# Altium integrated library DC_CDI_Honda_CX500_rev2.2.IntLib: 64 symbols
Pins are listed as number, name and electrical type; pins without a type are passive.

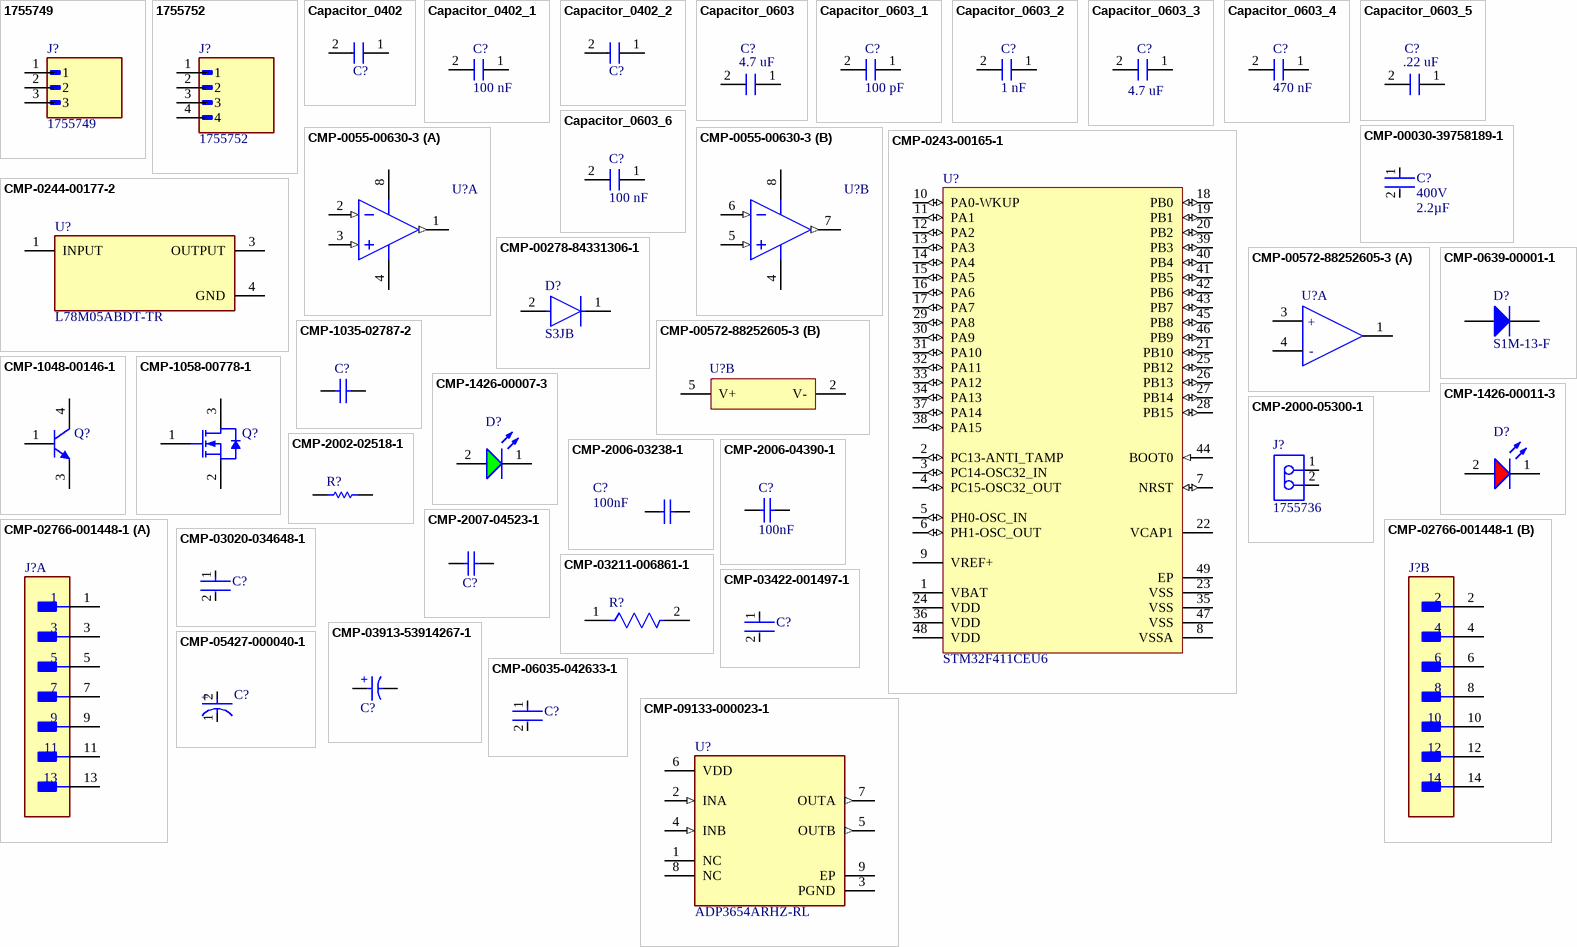
[diagram p0: symbols 1755749 to CMP-09133-000023-1]

## 1755749
designator J?
Package: None; Price: None; Value: *; MP: 1755749; Availability: Unavailable
footprint PHOENIX_1755749
pins: 1, 2, 3

## 1755752
designator J?
Package: None; Price: None; Value: *; MP: 1755752; Availability: Unavailable
footprint PHOENIX_1755752
pins: 1, 2, 3, 4

## Capacitor_0402
designator C?  (value not drawn)
Value: 3.3 nF; Format: 0402; Package: 0402
footprint 0402_fp
pins: 1, 2

## Capacitor_0402_1
designator C?, comment value 100 nF  (hidden comment: Capacitor_0402)
Format: 0402; Package: 0402
footprint 0402_fp
pins: 1, 2

## Capacitor_0402_2
designator C?, comment Capacitor_0402  (value not drawn)
Value: 10 nF; Format: 0402; Package: 0402
footprint 0402_fp
pins: 1, 2

## Capacitor_0603
designator C?, comment value 4.7 uF  (hidden comment: GRM21BR61C475KA88L)
Format: 0402; Package: 0402
footprint 0603_FP
pins: 1, 2

## Capacitor_0603_1
designator C?, comment value 100 pF  (hidden comment: Capacitor_0603)
Format: 0402; Package: 0402
footprint 0603_FP
pins: 1, 2

## Capacitor_0603_2
designator C?, comment value 1 nF  (hidden comment: Capacitor_0603)
Format: 0402; Package: 0402
footprint 0603_FP
pins: 1, 2

## Capacitor_0603_3
designator C?, comment value 4.7 uF  (hidden comment: Capacitor_0603)
Format: 0402; Package: 0402
footprint 0603_FP
pins: 1, 2

## Capacitor_0603_4
designator C?, comment value 470 nF  (hidden comment: Capacitor_0603)
Format: 0402; Package: 0402
footprint 0603_FP
pins: 1, 2

## Capacitor_0603_5
designator C?, comment value .22 uF  (hidden comment: GRM21BR61C475KA88L)
Format: 0402; Package: 0402
footprint 0603_FP
pins: 1, 2

## Capacitor_0603_6
designator C?, comment value 100 nF  (hidden comment: Capacitor_0603)
Format: 0402; Package: 0402
footprint 0603_FP
pins: 1, 2

## CMP-00030-39758189-1
designator C?, comment Voltage Rating (AC): 400V  Capacitance: 2.2µF  (hidden comment: BFC233820225)
BFC233820225 Film Capacitor, Polypropylene, 800V, 20% +Tol, 20% -Tol, 0.22uF, Through Hole Mount; NexarPartId: 39758189; Insulation Resistance: 11GΩ; Lead Diameter: 800µm; Voltage Rating (DC): 630V; Dielectric: PP; Packaging: Bulk; Lead Pitch: 27.5mm; Number of Pins: 2; Contact Plating: Tin; Height - Seated (Max): 24.9936mm; Width: 15.0114mm; Min Operating Temperature: -55°C; Lead Free: Lead Free; Length: 31.5mm; Schedule B: 8532250020, 8532250020; Depth: 15mm; Max Operating Temperature: 110°C; Tolerance: 20%; Dielectric Material: PP; RoHS: Compliant; Height: 28mm; Case/Package: Radial; Diameter: 18mm; Termination: Radial; Voltage Rating: 630V; REACH SVHC: Unknown; Radiation Hardening: No; Mount: Through Hole
footprint FP-BFC233820225-MFG (Film Capacitor, Polypropylene, 800V, 20% +Tol, 20% -Tol, 0.22uF, Through Hole Mount)
signal-integrity model Guessed Model (Capacitor Model Details Guessed by Setup Helper)
pins: 1, 2

## CMP-0055-00630-3
designator U?, comment LM358MX  (value not drawn)
Low Power Dual Operational Amplifier, 8-pin Narrow SOIC; Manufacturer: Texas Instruments; PowerWise: N; PackageTopMarking: NSZXTT*LM*358M; CompType: Amplifiers; ComponentLink1URL: http://www.ti.com/general/docs/lit/getliterature.tsp?genericPartNumber=LM358-N&fileType=pdf; PinCount: 8; PackageDescription: SOIC Narrow, 4.9 x 3.9 x 1.45mm, 8 Lead, 1.27mm Pitch; Code_IPC: SOIC127P600-8; RoHS: N; Code_JEDEC: MS-012-AA; Package Reference: D0008A; ComponentLink1Description: Datasheet URL
footprint D0008A_M (SOIC, 8-Leads, Body 5x4mm, Pitch 1.27mm, IPC Low Density)
footprint D0008A_N (SOIC, 8-Leads, Body 5x4mm, Pitch 1.27mm, IPC Medium Density)
footprint D0008A_L (SOIC, 8-Leads, Body 5x4mm, Pitch 1.27mm, IPC High Density)
pins on every part: 4 GND (power), 8 V+ (power)
part A pins: 1 OUTA (out), 2 INA- (in), 3 INA+ (in)
part B pins: 5 INB+ (in), 6 INB- (in), 7 OUTB (out)

## CMP-0243-00165-1
designator U?, comment STM32F411CEU6
ARM Cortex-M4 32-bit MCU+FPU, 512 KB Flash, 128 KB RAM, 36 I/Os, 48-Pin UFQFPN, -40 to 85 degC, Tray; Operating Frequency(F) (Processor speed) (MHz): 100; FLASH Size (Prog) (kB): 512; Internal RAM Size (kB): 128; I/Os (High Current): 36; Supply Voltage(Vcc) min (V): 1.7; Package Reference: 48-Pin Ultra Thin Fine Pitch Quad Flat No-Lead, 7 x 7 x 0.6 mm Body, 0.5 mm Pitch, Exposed Pad; ComponentLink1Description: Manufacturer URL; ComponentLink1URL: http://www.st.com/; Packing: Tray; Package Description: UFQFPN48; Core: ARM Cortex-M4; ComponentLink2Description: Datasheet; ComponentLink2URL: http://www.st.com/st-web-ui/static/active/en/resource/technical/document/datasheet/DM00115249.pdf; DatasheetVersion: Rev. 6; Mounting Technology: Surface Mount
footprint STM-UFQFPN48_L (QFN, 48-Leads, Body 7.1x7.1mm, Pitch 0.5mm, Thermal Pad 5.6x5.6mm, IPC High Density)
footprint STM-UFQFPN48_M (QFN, 48-Leads, Body 7.1x7.1mm, Pitch 0.5mm, Thermal Pad 5.6x5.6mm, IPC Low Density)
footprint STM-UFQFPN48_N (QFN, 48-Leads, Body 7.1x7.1mm, Pitch 0.5mm, Thermal Pad 5.6x5.6mm, IPC Medium Density)
pins: 1 VBAT (power), 2 PC13-ANTI_TAMP (io) "PC13-ANTI_TAMP/RTC_AMP1,RTC_OUT,RTC_TS", 3 PC14-OSC32_IN (io) "PC14-OSC32_IN/OSC32_IN", 4 PC15-OSC32_OUT (io) "PC15-OSC32_OUT/OSC32_OUT", 5 PH0-OSC_IN (io) "PH0-OSC_IN/OSC_IN", 6 PH1-OSC_OUT (io) "PH1-OSC_OUT/OSC_OUT", 7 NRST (io) "NRST/EVENTOUT", 8 VSSA (power), 9 VREF+ (power), 10 PA0-WKUP (io) "PA0-WKUP/TIM2_CH1/TIM2_ET,TIM5_CH1,USART2_CTS,EVENTOUT/ADC1_0,WKUP1", 11 PA1 (io) "PA1/TIM2_CH2,TIM5_CH2,SPI4_MOSI/I2S4_SD,USART2_RTS,EVENTOUT/ADC1_1", 12 PA2 (io) "PA2/TIM2_CH3,TIM5_CH3,TIM9_CH1,I2S2_CKIN,USART2_TX,EVENTOUT/ADC1_2", 13 PA3 (io) "PA3/TIM2_CH4,TIM5_CH4,TIM9_CH2,I2S2_MCK,USART2_RX,EVENTOUT/ADC1_3", 14 PA4 (io) "PA4/SPI1_NSS/I2S1_WS,SPI3_NSS/I2S3_WS,USART2_CK,EVENTOUT/ADC1_4", 15 PA5 (io) "PA5/TIM2_CH1/TIM2_ET,SPI1_SCK/I2S1_CK,EVENTOUT/ADC1_5", 16 PA6 (io) "PA6/TIM1_BKIN,TIM3_CH1,SPI1_MISO,I2S2_MCK,SDIO_CMD,EVENTOUT/ADC1_6", 17 PA7 (io) "PA7/TIM1_CH1N,TIM3_CH2,SPI1_MOSI/I2S1_SD,EVENTOUT/ADC1_7", 18 PB0 (io) "PB0/TIM1_CH2N,TIM3_CH3,SPI5_SCK/I2S5_CK,EVENTOUT/ADC1_8", 19 PB1 (io) "PB1/TIM1_CH3N,TIM3_CH4,SPI5_NSS/I2S5_WS,EVENTOUT/ADC1_9", 20 PB2 (io) "PB2/EVENTOUT/BOOT1", 21 PB10 (io) "PB10/TIM2_CH3,I2C2_SCL,SPI2_SCK/I2S2_CK,I2S3_MCK,SDIO_D7,EVENTOUT", 22 VCAP1, 23 VSS (power), 24 VDD (power), 25 PB12 (io) "PB12/TIM1_BKIN,I2C2_SMBA,SPI2_NSS/I2S2_WS,SPI4_NSS/I2S4_WS,SPI3_SCK/I2S3_CK,EVENTOUT", 26 PB13 (io) "PB13/TIM1_CH1N,SPI2_SCK/I2S2_CK,SPI4_SCK/I2S4_CK,EVENTOUT", 27 PB14 (io) "PB14/TIM1_CH2N,SPI2_MISO,I2S2EXT_SD,SDIO_D6,EVENTOUT", 28 PB15 (io) "PB15/RTC_50HZ,TIM1_CH3N,SPI2_MOSI/I2S2_SD,SDIO_CK,EVENTOUT/RTC_REFIN", 29 PA8 (io) "PA8/MCO_1,TIM1_CH1,I2C3_SCL,USART1_CK,USB_FS_SOF,SDIO_D1,EVENTOUT", 30 PA9 (io) "PA9/TIM1_CH2,I2C3_SMBA,USART1_TX,USB_FS_VBUS,SDIO_D2,EVENTOUT/OTG_FS_VBUS", 31 PA10 (io) "PA10/TIM1_CH3,SPI5_MOSI/I2S5_SD,USART1_RX,USB_FS_ID,EVENTOUT", 32 PA11 (io) "PA11/TIM1_CH4,SPI4_MISO,USART1_CTS,USART6_TX,USB_FS_DM,EVENTOUT", 33 PA12 (io) "PA12/TIM1_ETR,SPI5_MISO,USART1_RTS,USART6_RX,USB_FS_DP,EVENTOUT", 34 PA13 (io) "PA13/JTMS-SWDIO,EVENTOUT", 35 VSS (power), 36 VDD (power), 37 PA14 (io) "PA14/JTCK-SWCLK,EVENTOUT", 38 PA15 (io) "PA15/JTDI,TIM2_CH1/TIM2_ETR,SPI1_NSS/I2S1_WS,SPI3_NSS/I2S3_WS,USART1_TX,EVENTOUT", 39 PB3 (io) "PB3/JTDO-SWO,TIM2_CH2,SPI1_SCK/I2S1_CK,SPI3_SCK/I2S3_CK,USART1_RX,I2C2_SDA,EVENTOUT", 40 PB4 (io) "PB4/JTRST,TIM3_CH1,SPI1_MISO,SPI3_MISO,I2S3EXT_SD,I2C3_SDA,SDIO_D0,EVENTOUT", 41 PB5 (io) "PB5/TIM3_CH2,I2C1_SMBA,SPI1_MOSI/I2S1_SD,SPI3_MOSI/I2S3_SD,SDIO_D3,EVENTOUT", 42 PB6 (io) "PB6/TIM4_CH1,I2C1_SCL,USART1_TX,EVENTOUT", 43 PB7 (io) "PB7/TIM4_CH2,I2C1_SDA,USART1_RX,SDIO_D0,EVENTOUT", 44 BOOT0 (in) "BOOT0/VPP", 45 PB8 (io) "PB8/TIM4_CH3,TIM10_CH1,I2C1_SCL,SPI5_MOSI/I2S5_SD,I2C3_SDA,SDIO_D4,EVENTOUT", 46 PB9 (io) "PB9/TIM4_CH4,TIM11_CH1,I2C1_SDA,SPI2_NSS/I2S2_WS,I2C2_SDA,SDIO_D5,EVENTOUT", 47 VSS (power), 48 VDD (power), 49 EP (power)

## CMP-0244-00177-2
designator U?, comment L78M05ABDT-TR
IC REG LINEAR 5V 500MA DPAK; Polarity: Positive; Accuracy: 2%; Max Input Voltage: 35V; Tolerance: 4%; Power Supply Rejection Ratio (PSRR): 62dB; Dropout Voltage: 2V; Output Type: Fixed; Number of Regulators: 1; Min Input Voltage: 10V; Quiescent Current: 6mA; Mount: Surface Mount; Min Operating Temperature: -40°C; Lead Free: Lead Free; Number of Pins: 3; Height: 2.4mm; Weight: 0.01lb; Width: 6.2mm; Packaging: Tape and Reel; Output Current: 500mA; Output Voltage: 5V; Case/Package: TO-252; REACH SVHC: No SVHC; Max Operating Temperature: 125°C; Nominal Output Voltage: 5V; Number of Outputs: 1; Min Output Voltage: 5V; Radiation Hardening: No; Length: 6.6mm; Max Output Current: 500mA; Contact Plating: Tin; Output Voltage Accuracy: 2%; Package Quantity: 1
footprint FP-L78M05ABDT-TR-MFG
pins: 1 INPUT (power), 3 OUTPUT (power), 4 GND (power)

## CMP-00278-84331306-1
designator D?, comment S3JB
S3JB Rectifier Diode, 1 Phase, 1 Element, 3A, 600V V(RRM), Silicon, DO-214AA; Manufacturer Lifecycle Status: ACTIVE; NexarPartId: 84331306; Element Configuration: Single; Max Junction Temperature (Tj): 150°C; Peak Reverse Current: 10µA; Capacitance: 40pF; Reverse Recovery Time: 1.5µs; Max Forward Surge Current (Ifsm): 80A; Mount: Surface Mount; Max Reverse Voltage (DC): 600V; RoHS: Compliant; Packaging: Cut Tape; Weight: 180mg; Schedule B: 8541100080, 8541100080; Average Rectified Current: 3A; Height: 2.65mm; Min Operating Temperature: -55°C; Reverse Voltage: 600V; Max Repetitive Reverse Voltage (Vrrm): 600V; Lifecycle Status: Production; Case/Package: SMB; Forward Current: 3A; Max Operating Temperature: 150°C
footprint FP-403AF-MFG (Rectifier Diode, 1 Phase, 1 Element, 2A, 100V V(RRM), Silicon, DO-214AA)
pins: 1 C, 2 A

## CMP-00572-88252605-3
designator U?, comment ISL28134FHZ-T7A  (value not drawn)
5V Ultra Low Noise, Zero Drift Rail-to-Rail Precision Op Amp; Manufacturer Lifecycle Status: ACTIVE; Slew Rate: 1.5V/µs; Min Dual Supply Voltage: 1.125V; Bandwidth: 3.5MHz; Operating Supply Current: 675µA; Output Current per Channel: 65mA; Power Supply Rejection Ratio (PSRR): 135dB; Input Offset Voltage (Vos): -200nV; RAM Size: 384kB; Voltage Gain: 174dB; Number of Channels: 1; Pitch: 1mm; Max Supply Voltage: 6V; Input Bias Current: 120pA; Min Supply Voltage: 2.25V; Max Dual Supply Voltage: 3V; Supply Type: Dual, Single; Radiation Hardening: No; Min Operating Temperature: -40°C; ComponentLink1URL: http://www.renesas.com; ComponentLink3URL: https://www.renesas.com/en/document/psc/package-drawing-sot23-5pin-p5064a; Number of Pins: 5; Length: 2.9mm; Contact Plating: Tin; ComponentLink2URL: https://octopart.com/cad-content/api/get-model-datasheet/15189/88252605; Export Control Classification Number (ECCN) Code: EAR99; ComponentLink1Description: Manufacturer's Website; Gain Bandwidth Product: 3.5MHz; HelpURL: https://octopart.com/cad-content/api/get-model-datasheet/15189/88252605; ComponentLink3Description: Manufacturer's Package Drawing; RoHS: Compliant; Case/Package: SOT-23; Common Mode Rejection Ratio: 135dB; Lead Free: Lead Free; Output Current: 65mA; Width: 1.6mm; Nominal Supply Current: 675µA; Lifecycle Status: Production; Mount: Surface Mount; ComponentLink2Description: Datasheet URL; Max Operating Temperature: 125°C; Height: 0m; Number of Circuits: 1
footprint P5_064A_MFG (Recommended Land Pattern)
footprint SOT95P280X145-5_P5_064A_L (SOT23, 5-Leads, Body 2.90x2.80mm, Pitch 0.95mm, IPC High Density)
footprint SOT95P280X145-5_P5_064A_M (SOT23, 5-Leads, Body 2.90x2.80mm, Pitch 0.95mm, IPC Low Density)
footprint SOT95P280X145-5_P5_064A_N (SOT23, 5-Leads, Body 2.90x2.80mm, Pitch 0.95mm, IPC Medium Density)
part A pins: 1 OUT, 3 IN+ (hiz), 4 IN- (hiz)
part B pins: 2 V- (power), 5 V+ (power)
part A text: +; -

## CMP-0639-00001-1
designator D?, comment S1M-13-F
Surface Mount Glass Passivated Rectifier, 1000V, 1 A, -65 to 125 degC, 2-Pin SMA Package, RoHS, Tape and Reel; Manufacturer: Diodes Inc; Maximum Reverse Current IR (uA): 5; Maximum Peak Forward Surge Current IFSM (A): 30; Maximum Average Rectified Current IO (A): 1; Peak Repetitive Reverse Voltage VRRM (V): 1000; Total Capacitance CT (pF): 10; Forward Voltage Drop VF (V): 1.1; ComponentLink1URL: http://www.diodes.com/; Operating Temperature Range: -65 to 150 degC; ComponentLink3URL: http://diodes.com/datasheets/ds16003.pdf; ComponentLink3Description: Package Specification; PackageDescription: 2-Pin SMD, Body 4.3 x 2.605 mm, Height 2.3 mm; Mounting Technology: Surface Mount; ComponentLink1Description: Manufacturer URL; PackageReference: S1M-13-F-SMA-2; ComponentLink2URL: http://diodes.com/datasheets/ds16003.pdf; ComponentLink2Description: Datasheet; RoHS: TRUE; DatasheetVersion: Rev. 22 - 2; Packing: Tape and Reel; PackageVersion: Rev. 22 - 2; PartNumber: S1M-13-F
footprint DIOD-S1M-13-F-SMA-2_V (SMD, 2-Leads, Body 4.3x2.605mm, Height 2.3mm)
pins: 1 A, 2 K

## CMP-1035-02787-2
designator C?, comment 0603ZD475MAT2A  (value not drawn)
Manufacturer: AVX Interconnect / Elco; Part Number: 0603ZD475MAT2A
footprint CAPC1608X90X35NL15T15 (Chip Capacitor, 2-Leads, Body 1.60x0.81mm, IPC Medium Density)
footprint CAPC1608X90X35ML15T15 (Chip Capacitor, 2-Leads, Body 1.60x0.81mm, IPC Low Density)
footprint CAPC1608X90X35LL15T15 (Chip Capacitor, 2-Leads, Body 1.60x0.81mm, IPC High Density)
pins: 1, 2
1 alternate drawing of the same symbol

## CMP-1048-00146-1
designator Q?, comment MJD3055T4G  (value not drawn)
Complementary Power Transistor, 3-Pin DPAK, Pb-Free, Tape and Reel; Manufacturer: On Semiconductor; Polarity: NPN; fT Min (MHz): 2; IC Continuous (A): 10; PackageVersion: Rev. E, 02/2014; ComponentLink3URL: http://www.onsemi.cn/pub_link/Collateral/369C.PDF; ComponentLink1Description: Manufacturer URL; PackageReference: DPAK-3-369C-01; ComponentLink1URL: http://www.onsemi.com/; ComponentLink3Description: Package Specification; ComponentLink2URL: http://www.onsemi.cn/pub_link/Collateral/MJD2955-D.PDF; ComponentLink2Description: Datasheet; DatasheetVersion: Rev. 13; Packing: Tape and Reel; PackageDescription: 3-Pin Flange Mount, Body 6.54 x 6.095 mm, Pitch 2.29 mm; Mounting Technology: Surface Mount; PartNumber: MJD3055T4G; RoHS: TRUE
footprint ONSC-DPAK-3-369C-01_V (DPAK, 3-Leads, Body 6.54x6.095mm, Pitch 2.29mm)
pins: 1 B, 3 E, 4 C

## CMP-1058-00778-1
designator Q?, comment MGSF1N03LT1G  (value not drawn)
Power MOSFET, 30 V, 2.1 A, Single N-Channel, 3-Pin SOT-23, Pb-Free, Tape and Reel; Manufacturer: On Semiconductor; VGS(th) Max (V): 2.4; Channel Polarity: N Channel; Ciss Typ (pF): 140; Crss Typ (pF): 40; Coss Typ (pF): 100; V(BR)DSS Min (V): 30; ID Max (A): 2.1; VGS Max (V): 20; ComponentLink1Description: Manufacturer URL; PartNumber: MGSF1N03LT1G; Packing: Tape and Reel; DatasheetVersion: Rev. 10; ComponentLink1URL: http://www.onsemi.com/; Mounting Technology: Surface Mount; PackageVersion: Rev. AP, 11/2009; PackageDescription: 3-Pin Small Outline Transistor, Body 2.92 x 1.3 mm, Pitch 0.95 mm; Package Type: SOT-23-3; ComponentLink3URL: http://www.onsemi.cn/pub_link/Collateral/318-08.PDF; RoHS: Pb-Free; ComponentLink3Description: Package Specification; ComponentLink2Description: Datasheet; Configuration: Single; PackageReference: SOT-23-3-318-08; ComponentLink2URL: http://www.onsemi.cn/pub_link/Collateral/MGSF1N03LT1-D.PDF
footprint ONSC-SOT-23-3-318-08_V (SOT23, 3-Leads, Body 2.92x1.3mm, Pitch 0.95mm)
pins: 1 G, 2 S, 3 D

## CMP-1426-00007-3
designator D?, comment 150080GS75000  (value not drawn)
WURTH ELEKTRONIK - 150080GS75000 - LED, Green, SMD, 0805, 30 mA, 3.2 V, 520 nm; Forward Voltage: 3.2V; Viewing Angle: 140°; Power Dissipation: 105mW; Peak Wavelength: 515nm; Max Reverse Voltage (DC): 5V; Luminous Intensity: 450mcd; Wavelength: 525nm; Max Junction Temperature (Tj): 95°C; Forward Current: 100mA; Test Current: 20mA; Lens Style: Clear, Rectangular; Length: 2mm; Case/Package: 0805; Case Code (Metric): 2012; Color: Green; Height: 700µm; Width: 1.25mm; Packaging: Tape and Reel; Mount: Surface Mount; REACH SVHC: Unknown; RoHS: Compliant; Min Operating Temperature: -40°C; Reverse Voltage: 5V; Max Operating Temperature: 85°C; Dominant Wavelength: 525nm; Case Code (Imperial): 0805
footprint WL-SMCW_0805_150080xx75000
pins: 1 K, 2 A

## CMP-1426-00011-3
designator D?, comment 150080RS75000  (value not drawn)
LED Uni-Color Red 630nm 2-Pin Chip 0805(2012Metric) T/R; Viewing Angle: 140°; Max Junction Temperature (Tj): 95°C; Power Dissipation: 72mW; Forward Current: 100mA; Forward Voltage: 2V; Wavelength: 625nm; Test Current: 20mA; Max Reverse Voltage (DC): 5V; Luminous Intensity: 150mcd; Lens Style: Clear, Rectangular; REACH SVHC: Unknown; Height: 700µm; Case Code (Metric): 2012; Peak Wavelength: 630nm; Length: 2mm; Width: 1.25mm; RoHS: Compliant; Packaging: Tape and Reel; Dominant Wavelength: 625nm; Color: Red; Case Code (Imperial): 0805; Min Operating Temperature: -40°C; Mount: Surface Mount; Max Operating Temperature: 85°C; Case/Package: 0805
footprint WL-SMCW_0805_150080xx75000
pins: 1 K, 2 A

## CMP-2000-05300-1
designator J?, comment 1755736
Male Header, Pitch 5.08 mm, 1 x 2 Postion, Height 12 mm, Tail Length 3.9 mm, RoHS, Bulk; Manufacturer: Phoenix Contact; Content: 250pc(s); Pitch: 5.08mm; Industrial packaging: Yes; Number of contacts: 2; Manufacturer URL: http://www.phoenixcontact.com/; Datasheet Version: Apr-16; Datasheet URL: http://www.mouser.com/ds/2/324/ItemDetail_1755736-921028.pdf; Manufacturer part No.: 1755736; Type: MSTBVA2,5/2-G-5,08; Colour: Green
footprint PHOE-1755736-2_V (THD, 2-Leads, Body 12.16x8.6mm, Pitch 5.08mm)
pins: 1, 2

## CMP-2002-02518-1
designator R?, comment MCS04020D5600BE100  (value not drawn)
Manufacturer: Vishay BCcomponents; Part Number: MCS04020D5600BE100
footprint RESC1005X37X20NL05T10 (Chip Resistor, 2-Leads, Body 1.00x0.50mm, IPC Medium Density)
footprint RESC1005X37X20LL05T10 (Chip Resistor, 2-Leads, Body 1.00x0.50mm, IPC High Density)
footprint RESC1005X37X20ML05T10 (Chip Resistor, 2-Leads, Body 1.00x0.50mm, IPC Low Density)
pins: 1, 2
1 alternate drawing of the same symbol

## CMP-2006-03238-1
designator C?, comment value 100nF  (hidden comment: C0603C475K8PACTU)
Manufacturer: Kemet; Part Number: C0603C475K8PACTU
footprint CAPC1608X87X35NL15T15 (Chip Capacitor, 2-Leads, Body 1.60x0.80mm, IPC Medium Density)
footprint CAPC1608X87X35LL15T15 (Chip Capacitor, 2-Leads, Body 1.60x0.80mm, IPC High Density)
footprint CAPC1608X87X35ML15T15 (Chip Capacitor, 2-Leads, Body 1.60x0.80mm, IPC Low Density)
pins: 1, 2
1 alternate drawing of the same symbol

## CMP-2006-04390-1
designator C?, comment value 100nF  (hidden comment: 06035C104KAT4A)
Manufacturer: AVX Interconnect / Elco; Part Number: 06035C104KAT4A
footprint CAPC1608X90X35LL15T15 (Chip Capacitor, 2-Leads, Body 1.60x0.81mm, IPC High Density)
footprint CAPC1608X90X35ML15T15 (Chip Capacitor, 2-Leads, Body 1.60x0.81mm, IPC Low Density)
footprint CAPC1608X90X35NL15T15 (Chip Capacitor, 2-Leads, Body 1.60x0.81mm, IPC Medium Density)
pins: 1, 2
1 alternate drawing of the same symbol

## CMP-2007-04523-1
designator C?, comment 0805ZG106ZAT2A  (value not drawn)
Manufacturer: AVX Interconnect / Elco; Part Number: 0805ZG106ZAT2A
footprint CAPC2013X152X50NL20T25 (Chip Capacitor, 2-Leads, Body 2.01x1.25mm, IPC Medium Density)
footprint CAPC2013X152X50LL20T25 (Chip Capacitor, 2-Leads, Body 2.01x1.25mm, IPC High Density)
footprint CAPC2013X152X50ML20T25 (Chip Capacitor, 2-Leads, Body 2.01x1.25mm, IPC Low Density)
pins: 1, 2
1 alternate drawing of the same symbol

## CMP-02766-001448-1
designator J?, comment FTSH-107-01-F-DV-K  (value not drawn)
CONN HEADER SMD 14POS 1.27MM; Gender: Male; Connector Type: Male Pin; Number of Contacts: 14; Row Spacing: 0.05inch; Min Operating Temperature: -55°C; Package Quantity: 1; Lead Free: Lead Free; RoHS Compliant: Yes; Contact Material: Bronze; Contact Plating: Gold; Number of Rows: 2; Housing Material: Polymer; Contact Type: Male Pin; Series: FTSH; Max Operating Temperature: 125°C; Orientation: Straight; Number of Positions: 14; Pitch: 1.27mm; Housing Color: Black; Color: Black; Radiation Hardening: No; Length: 8.89mm; Termination: Solder; Packaging: Rail/Tube; Depth: 5.84mm; Mount: Surface Mount; Contact Mating Length: 0.12inch
footprint FP-FTSH-107-01-F-DV-K-MFG
part A pins: 1, 3, 5, 7, 9, 11, 13
part B pins: 2, 4, 6, 8, 10, 12, 14

## CMP-03020-034648-1
designator C?, comment C1206X104J3GACTU  (value not drawn)
CAP CER 0.1UF 25V C0G/NP0 1206; RoHS Compliant: Yes
footprint FP-C1206X104J3GACTU-MFG
footprint FP-C1206X104J3GACTU-IPC_C
footprint FP-C1206X104J3GACTU-IPC_B
footprint FP-C1206X104J3GACTU-IPC_A
pins: 1, 2

## CMP-03211-006861-1
designator R?, comment CRGP0805F10K  (value not drawn)
CRGP 0805 10K 1%; Manufacturer: TE; Power Rating: 0.33W; Voltage Rating: 150V; Value: 10KΩ; Tolerance: 0.01; Temperature Coefficient: ±100ppm/°C; Manufacturer Part Number: CRGP0805F10K; ComponentLink2URL: https://www.mouser.com/datasheet/2/418/NG_DS_9-1773463-9_A-1358566.pdf; Temperature Range Low: -55°C; Ipc Land Pattern Name: RESC200125X55; Device Class L2: Resistors; Automotive: No; Device Class L3: Chip SMD Resistors; Composition: Thick Film; Temperature Range High: +155°C; Temperature: -55°C to +155°C; Height: 0.65mm; Series: CRGP; RoHS: TRUE; Device Class L1: Passive Components; Octopart: https://octopart.com/crgp0805f10k-te+connectivity-91018782; Package: CRGP0805; Digikey Description: CRGP 0805 10K 1%; Ambient Temperature Range High: +70°C; Lead Free: Yes; ComponentLink2Description: Datasheet; Category: Res; Resistance: 10KΩ
footprint FP-CRGP0805-IPC_C
footprint FP-CRGP0805-IPC_B
footprint FP-CRGP0805-IPC_A
pins: 1, 2

## CMP-03422-001497-1
designator C?, comment CC0805MKX5R8BB226  (value not drawn)
CAP CER 22UF 25V X5R 0805; Tolerance: 20%; Max Operating Temperature: 85°C; Dielectric: X5R; Termination: SMD/SMT; Voltage Rating: 25V; Width: 0.049inch; Min Operating Temperature: -55°C; Case/Package: 0805; Lead Free: Lead Free; RoHS Compliant: Yes; Weight: 0.000194oz; Voltage Rating (DC): 25V; Capacitance: 22uF; Length: 0.079inch; Halogen Free: Halogen Free; Height: 1.25mm; Packaging: Tape and Reel; Package Quantity: 3000; Case Code (Metric): 2012; Thickness: 0.057inch; Case Code (Imperial): 0805; Mount: Surface Mount
footprint FP-CC0805-0_2-1_45-IPC_C
footprint FP-CC0805-0_2-1_45-IPC_B
footprint FP-CC0805-0_2-1_45-MFG
footprint FP-CC0805-0_2-1_45-IPC_A
pins: 1, 2

## CMP-03913-53914267-1
designator C?, comment 860021373001  (value not drawn)
860021373001 WCAP-ATG5 Aluminum Electrolytic Capacitors; NexarPartId: 53914267; Life (Hours): 2000hours; Polarity: Polar; Voltage Rating (DC): 400V; Leakage Current: 5.64µA; Tolerance: 20%; Capacitance: 470nF; Pitch: 2.5mm; Ripple Current: 14mA; Height: 11mm; Height - Seated (Max): 12.4968mm; Case/Package: Radial; REACH SVHC: Unknown; Length: 11mm; Diameter: 6.3mm; Lead Pitch: 2.4892mm; Voltage Rating: 400V; Mount: Through Hole; RoHS: Compliant; Min Operating Temperature: -25°C; Packaging: Tape & Box (TB); Max Operating Temperature: 105°C
footprint WCAP-ATG5_D6.3H11 (WCAP-ATG5 Aluminum Electrolytic Capacitors)
pins: 1 P, 2 N
text: +

## CMP-05427-000040-1
designator C?, comment EEEFT1E471AP  (value not drawn)
CAP ALUM 470UF 20% 25V SMD; ESR (Equivalent Series Resistance): 80mR; Dielectric Material: Aluminium; Lead Diameter: 0.9mm; Ripple Current: 850mA; Leakage Current: 117.5uA; Life (Hours): 2000Hour; Lead Free: Lead Free; Height - Seated (Max): 0.413inch; Contact Plating: Tin; Voltage: 25V; Package Quantity: 500; REACH SVHC: No SVHC; Diameter: 8mm; Features: General Purpose; Voltage Rating: 25V; Radiation Hardening: No; Number of Pins: 2; Length: 10.2mm; Max Operating Temperature: 105°C; Tolerance: 20%; Lead Pitch: 3.1mm; Voltage Rating (DC): 25V; Packaging: Tape and Reel; RoHS Compliant: Yes; Series: FT; Height: 10.2mm; Capacitance: 470uF; Construction: Cylindrical; Case/Package: Radial; Mount: Surface Mount; Termination: SMD/SMT; Min Operating Temperature: -55°C; Ripple Current (AC): 850mA
footprint FP-FTF-MFG
pins: 1 C, 2 A
text: +

## CMP-06035-042633-1
designator C?, comment GRM21BR61A476ME15K  (value not drawn)
Chip Multilayer Ceramic Capacitors for General Purpose, 0805, 47uF, X5R, 15%, 20%, 10V; Min Operating Temperature: -55°C; Max Operating Temperature: 85°C; Length: 0.079inch; Case Code (Imperial): 0805; Tolerance: 20%; Mount: Surface Mount; Voltage Rating (DC): 10V; Termination: SMD/SMT; Voltage Rating: 10V; Weight: 0.000335oz; Package Quantity: 10000; Dielectric: X5R; Thickness: 0.057inch; Capacitance: 47uF; Case/Package: 0805; Width: 0.049inch; Case Code (Metric): 2012; Packaging: Tape and Reel
footprint FP-GRM21B-0_2-e0_2_0_7-IPC_B
footprint FP-GRM21B-0_2-e0_2_0_7-IPC_A
footprint FP-GRM21B-0_2-e0_2_0_7-MFG
footprint FP-GRM21B-0_2-e0_2_0_7-IPC_C
pins: 1, 2

## CMP-09133-000023-1
designator U?, comment ADP3654ARHZ-RL
IC GATE DRVR LOW-SIDE 8MINISOIC; Number of Outputs: 2; Min Supply Voltage: 4.5V; Output Current: 4A; Max Supply Current: 3mA; Rise Time: 14ns; Fall Time: 25ns; Max Supply Voltage: 18V; Turn-On Delay Time: 35ns; Channel Type: Independent; Package Quantity: 3000; RoHS Compliant: Yes; Series: -; Max Operating Temperature: 125°C; Mount: Surface Mount; Max Output Current: 4A; Lead Free: Contains Lead; Supply Current: 3mA; Packaging: Tape and Reel; Case/Package: MSOP; Min Operating Temperature: -40°C; Min Input Voltage: 4.5V; Max Input Voltage: 18V; Number of Drivers: 2; Nominal Supply Current: 3mA; Number of Pins: 8; Propagation Delay: 35ns
footprint FP-RH-8-1-IPC_C
footprint FP-RH-8-1-IPC_A
footprint FP-RH-8-1-IPC_B
pins: 1 NC, 2 INA (in), 3 PGND (power), 4 INB (in), 5 OUTB (out), 6 VDD (power), 7 OUTA (out), 8 NC, 9 EP (power)

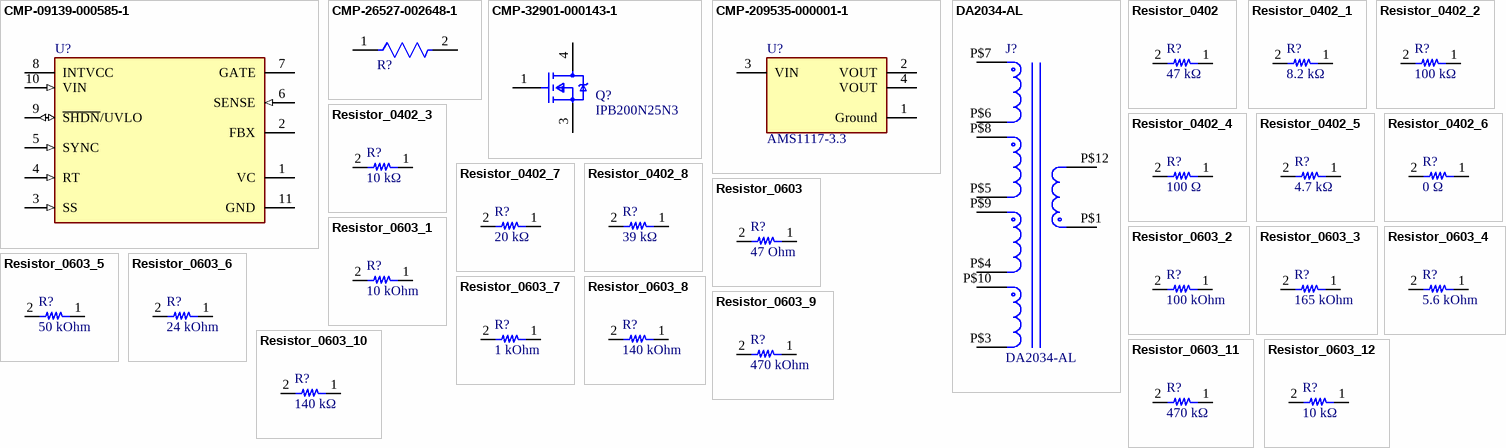
[diagram p1: symbols CMP-09139-000585-1 to Resistor_0603_12]

## CMP-09139-000585-1
designator U?, comment LT3758EDD#PBF  (value not drawn)
IC REG CTRLR MULT TOPOLOGY 10DFN; Max Input Voltage: 100V; Number of Outputs: 1; Max Output Voltage: 12V; Max Output Current: 1.2A; Max Frequency: 1MHz; Min Input Voltage: 5.5V; Topology: Boost; Mount: Surface Mount; Min Operating Temperature: -40°C; REACH SVHC: No SVHC; Max Operating Temperature: 125°C; Output Voltage: 100V; Max Supply Voltage: 100V; Switching Frequency: 1MHz; Case/Package: DFN; Package Quantity: 121; Series: -; Packaging: Rail/Tube; RoHS Compliant: Yes; Width: 3mm; Min Supply Voltage: 5.5V; Number of Pins: 10; Length: 3mm; Height: 0.7mm
footprint FP-DD-10-05-08-1699-IPC_B
footprint FP-DD-10-05-08-1699-MFG
footprint FP-DD-10-05-08-1699-IPC_C
footprint FP-DD-10-05-08-1699-IPC_A
pins: 1 VC, 2 FBX, 3 SS (in), 4 RT (in), 5 SYNC (in), 6 SENSE (in), 7 GATE, 8 INTVCC (power), 9 ~{SHDN}/UVLO (io), 10 VIN (in), 11 GND (power)

## CMP-26527-002648-1
designator R?, comment CSRN2010FK20L0  (value not drawn)
Res Thick Film 2010 20mΩ 1% 1W ±250ppm/°C Molded SMD Plastic T/R; Resistance: 20mR; Number of Terminations: 2; Radiation Hardening: No; Series: CSRN; Length: 0.197inch; RoHS Compliant: Yes; Max Operating Temperature: 155°C; Packaging: Tape and Reel; Resistor Type: Thick Film; Tolerance: 1%; Mount: Surface Mount; Height: 0.03inch; Package Quantity: 1; Case Code (Imperial): 2010; Case Code (Metric): 5025; Max Power Dissipation: 1W; Temperature Coefficient: 250ppm/°C; Case/Package: 2010; Size Code: 2010; Width: 0.097inch; Contact Plating: Tin; Power Rating: 1W; Min Operating Temperature: -55°C; Lead Free: Lead Free
footprint FP-CSRN2010-IPC_B
footprint FP-CSRN2010-IPC_A
footprint FP-CSRN2010-IPC_C
footprint FP-CSRN2010-MFG
pins: 1, 2

## CMP-32901-000143-1
designator Q?, comment IPB200N25N3
MOSFET N-CH 30V 161A DPAK; Manufacturer Part Number: IRLR7843TRPBF; Manufacturer: Infineon; Drain To Source Resistance: 3.2mΩ; Depletion Mode: False; Reverse Recovery Time: 39ns; Reverse Recovery Charge: 36nC; Threshold Vgs Max: 2.3V; Rthja Max: 50°C/W; Threshold Vgs Min: 1.4V; Power Dissipation: 140W; Pulse Drain Current: 620A; Input Capacitace At Vds: 4380pF @ 15V; Turn On Delay Time: 25ns; Gate To Source Voltage: 20V; Max Forward Diode Voltage: 1V; Gate Charge At Vgs: 34nC @ 4.5V; Max Junction Temp: +175°C; Number Of Channels: 1; Turn Off Delay Time: 34ns; ComponentLink2URL: https://www.infineon.com/dgdl/irlr7843pbf.pdf?fileId=5546d462533600a40153566de53526d8; Temperature Range High: +175°C; Octopart: https://octopart.com/irlr7843trpbf-infineon-65875062; Temperature: -55°C to +175°C; Device Class L3: MOSFETs; Category: Trans; Package: PG-TO252-3; Footprint Url: https://www.infineon.com/cms/en/product/packages/PG-TO252/PG-TO252-3-901/; Continuous Drain Current: 161A; Digikey Description: MOSFET N-CH 30V 161A DPAK; Automotive: No; Lead Free: Yes; Drain To Source Breakdown Voltage: 30V; Height: 2.52mm; Temperature Range Low: -55°C; RoHS: TRUE; Number Of N Channels: 1; Drain To Source Voltage: 30V; ComponentLink2Description: Datasheet; Device Class L2: Transistors; Device Class L1: Discrete Semiconductors
footprint FP-PG-TO252-3-MFG
signal-integrity model Guessed Model (BJT Model Details Guessed by Setup Helper)
pins: 1 GATE, 3 SOURCE, 4 DRAIN

## CMP-209535-000001-1
designator U?, comment AMS1117-3.3
LDO Voltage Regulators 1A, 3.3V; Manufacturer: Advanced Monolithic Systems; Dropout Voltage: 1.1V; Output Type: Fixed; Nominal Supply Current: 5mA; Max Power Dissipation: 1.2W; Max Supply Voltage: 15V; Number Of Outputs: 1; Standoff Height: 0.64mm; Max Junction Temp: +125°C; Height: 1.8mm; Package: AMS1117; Device Class L2: Power Management ICs; ComponentLink2Description: Datasheet; ComponentLink2URL: http://www.advanced-monolithic.com/pdf/ds1117.pdf; Category: IC; RoHS: TRUE; Automotive: No; Device Class L1: Integrated Circuits (ICs); Output Current: 1A; Device Class L3: Voltage Regulators - Linear; Temperature: -40°C to +125°C; Output Voltage: 3.3V; Manufacturer Part Number: AMS1117-3.3; Temperature Range Low: -40°C; Octopart: https://octopart.com/ams1117-3.3-advanced+monolithic+systems-25899300; Lead Free: Yes; Ipc Land Pattern Name: SOT229P700X180-4; Temperature Range High: +125°C
footprint FP-AMS1117-IPC_C
footprint FP-AMS1117-IPC_B
footprint FP-AMS1117-IPC_A
pins: 1 Ground (power), 2 VOUT, 3 VIN (power), 4 VOUT

## DA2034-AL
designator J?
Flyback Transformer for Linear Technology LT3750  Reference: http://www.coilcraft.com/da2032.cfm  L - 10 uH TurnsRatio Pri:Sec - 1:10 Ipeak - 10.0 A Interwinding capacitance - 128 pF DCRmax: Pri - 0.018, Sec - 1.75 Ohms; Package: None; Price: None; Value: *; MP: DA2034-AL; Availability: Unavailable
footprint DA2034-AL
pins: P$1 1, P$3 3, P$4 4, P$5 5, P$6 6, P$7 7, P$8 8, P$9 9, P$10 10, P$12 12

## Resistor_0402
designator R?  value 47 kΩ  (hidden comment: Resistor_0402)
Package: 0402
footprint 0402_fp
pins: 1, 2

## Resistor_0402_1
designator R?, comment value 8.2 kΩ  (hidden comment: Resistor_0402)
Package: 0402
footprint 0402_fp
pins: 1, 2

## Resistor_0402_2
designator R?, comment value 100 kΩ  (hidden comment: Resistor_0402)
Package: 0402
footprint 0402_fp
pins: 1, 2

## Resistor_0402_3
designator R?, comment value 10 kΩ  (hidden comment: Resistor_0402)
Package: 0402
footprint 0402_fp
pins: 1, 2

## Resistor_0402_4
designator R?, comment value 100 Ω  (hidden comment: Resistor_0402)
Package: 0402
footprint 0402_fp
pins: 1, 2

## Resistor_0402_5
designator R?, comment value 4.7 kΩ  (hidden comment: Resistor_0402)
Package: 0402
footprint 0402_fp
pins: 1, 2

## Resistor_0402_6
designator R?, comment value 0 Ω  (hidden comment: Resistor_0402)
Package: 0402
footprint 0402_fp
pins: 1, 2

## Resistor_0402_7
designator R?, comment value 20 kΩ  (hidden comment: Resistor_0402)
Package: 0402
footprint 0402_fp
pins: 1, 2

## Resistor_0402_8
designator R?, comment value 39 kΩ  (hidden comment: Resistor_0402)
Package: 0402
footprint 0402_fp
pins: 1, 2

## Resistor_0603
designator R?  value 47 Ohm  (hidden comment: Resistor_0603)
Format: 0402; Package: 0402
footprint 0603_FP
pins: 1, 2

## Resistor_0603_1
designator R?, comment value 10 kOhm  (hidden comment: Resistor_0603)
Format: 0402; Package: 0402
footprint 0603_FP
pins: 1, 2

## Resistor_0603_2
designator R?, comment value 100 kOhm  (hidden comment: Resistor_0603)
Format: 0402; Package: 0402
footprint 0603_FP
pins: 1, 2

## Resistor_0603_3
designator R?, comment value 165 kOhm  (hidden comment: Resistor_0603)
Format: 0402; Package: 0402
footprint 0603_FP
pins: 1, 2

## Resistor_0603_4
designator R?, comment value 5.6 kOhm  (hidden comment: Resistor_0603)
Format: 0402; Package: 0402
footprint 0603_FP
pins: 1, 2

## Resistor_0603_5
designator R?, comment value 50 kOhm  (hidden comment: Resistor_0603)
Format: 0402; Package: 0402
footprint 0603_FP
pins: 1, 2

## Resistor_0603_6
designator R?, comment value 24 kOhm  (hidden comment: Resistor_0603)
Format: 0402; Package: 0402
footprint 0603_FP
pins: 1, 2

## Resistor_0603_7
designator R?, comment value 1 kOhm  (hidden comment: Resistor_0603)
Format: 0402; Package: 0402
footprint 0603_FP
pins: 1, 2

## Resistor_0603_8
designator R?, comment value 140 kOhm  (hidden comment: Resistor_0603)
Format: 0402; Package: 0402
footprint 0603_FP
pins: 1, 2

## Resistor_0603_9
designator R?, comment value 470 kOhm  (hidden comment: Resistor_0603)
Format: 0402; Package: 0402
footprint 0603_FP
pins: 1, 2

## Resistor_0603_10
designator R?, comment value 140 kΩ  (hidden comment: Resistor_0603)
Format: 0402; Package: 0402
footprint 0603_FP
pins: 1, 2

## Resistor_0603_11
designator R?, comment value 470 kΩ  (hidden comment: Resistor_0603)
Format: 0402; Package: 0402
footprint 0603_FP
pins: 1, 2

## Resistor_0603_12
designator R?, comment value 10 kΩ  (hidden comment: Resistor_0603)
Format: 0402; Package: 0402
footprint 0603_FP
pins: 1, 2